# EAGLE library part MPXH6400A (library mpx-freescale)
High Temperature Accuracy Integrated Silicon Pressure Sensor for Measuring Absolute Pressure, On-Chip Signal Conditioned, Temperature Compensated and Calibrated INTEGRATED PRESSURE SENSOR 20 TO 400 kPA (3.0 TO 58 psi) 0.2 TO 4.8 V OUTPUT (3.0 TO 58 psi)
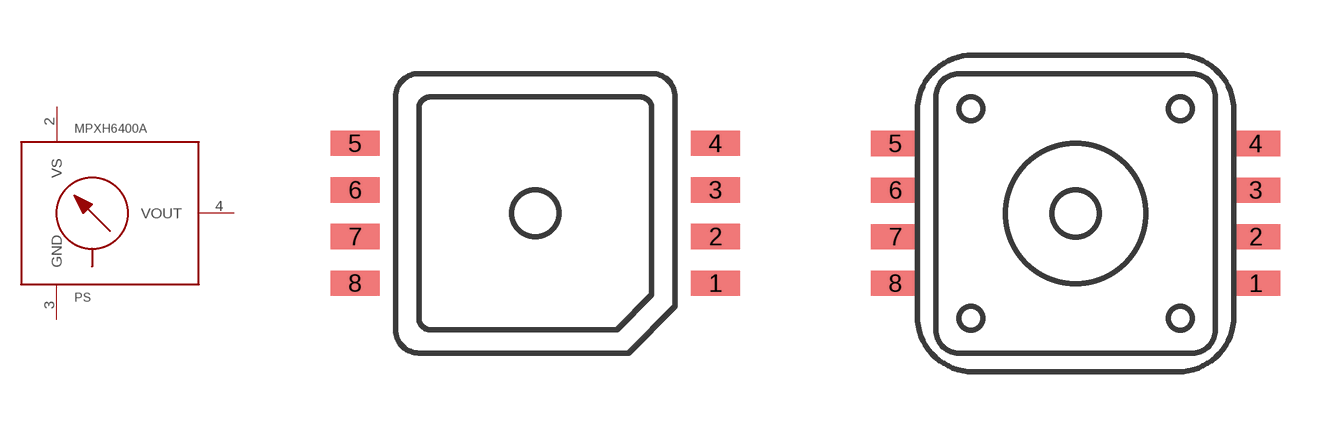
[diagram p0: symbol with the pads of 1317; footprints 1317, 1317A]

Designator prefix PS

## MPXH6400A6T1  [1317]
1  NC  nc
2  VS  pwr
3  GND  pwr
4  VOUT  out
5  NC  nc
6  NC  nc

## MPXH6400A6U  [1317]
Pads as for 1317

## MPXH6400AC6U  [1317A]
Pads as for 1317

## MPXH6400AC6T1  [1317A]
Pads as for 1317

## Footprint 1317 (pad centres in mm)
Super Small Outline Package 1317-04
smd 1.346 x 0.686: 1 4.915,-1.905; 2 4.915,-0.635; 3 4.915,0.635; 4 4.915,1.905; 5 -4.915,1.905; 6 -4.915,0.635; 7 -4.915,-0.635; 8 -4.915,-1.905

## Footprint 1317A (pad centres in mm)
Super Small Outline Package 1317A-03
smd 1.346 x 0.686: 1 4.915,-1.905; 2 4.915,-0.635; 3 4.915,0.635; 4 4.915,1.905; 5 -4.915,1.905; 6 -4.915,0.635; 7 -4.915,-0.635; 8 -4.915,-1.905